# Altium footprint library cpld.PcbLib: 7 footprints
Each footprint in its own frame and in the unit in brackets; x right, y up, seen from the top. Pads: shape width x height; smd on the part's side, far side on the other; paste and mask are expansions set on the pad; w line width, h text height; cw(c..) or ccw(c..) is an arc to the next point about the centre after c.
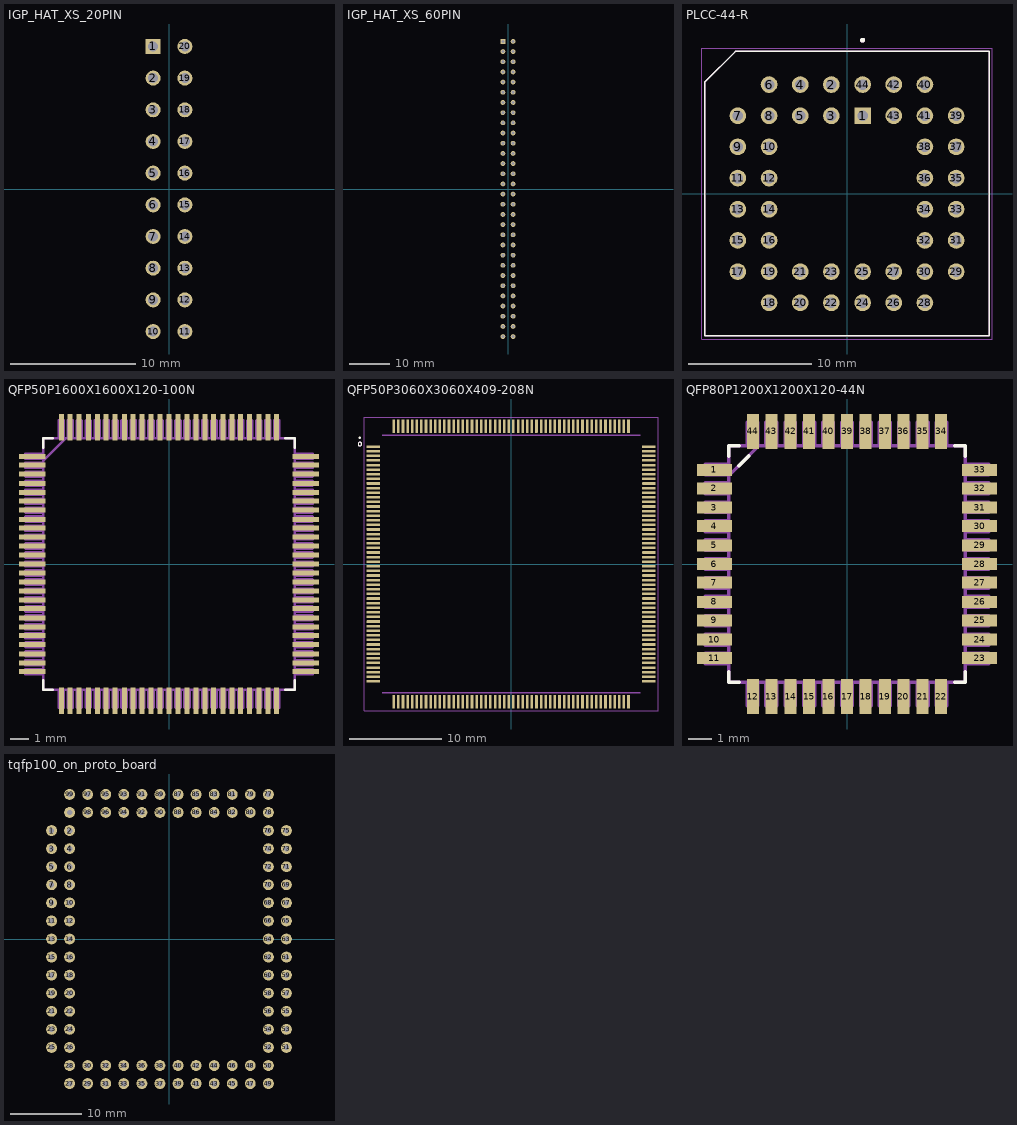
[diagram p0: the footprints below, top view; thin cyan lines are the x and y axes]

## IGP_HAT_XS_20PIN [mm]
pads (20):
  rect 1.2x1.2 hole 0.8: 1(-1.27,11.43)
  round 1.2 hole 0.8: 2(-1.27,8.89) 3(-1.27,6.35) 4(-1.27,3.81) 5(-1.27,1.27) 6(-1.27,-1.27) 7(-1.27,-3.81) 8(-1.27,-6.35) 9(-1.27,-8.89) 10(-1.27,-11.43) 11(1.27,-11.43) 12(1.27,-8.89) 13(1.27,-6.35) 14(1.27,-3.81) 15(1.27,-1.27) 16(1.27,1.27) 17(1.27,3.81) 18(1.27,6.35) 19(1.27,8.89) 20(1.27,11.43)
3D body "PBD20.STEP": height 5.2, standoff -3.1, extent -2.52,-12.95 2.48,12.95

## IGP_HAT_XS_60PIN [mm]
pads (60):
  rect 1.2x1.2 hole 0.8: 1(-1.27,36.83)
  round 1.2 hole 0.8: 2(-1.27,34.29) 3(-1.27,31.75) 4(-1.27,29.21) 5(-1.27,26.67) 6(-1.27,24.13) 7(-1.27,21.59) 8(-1.27,19.05) 9(-1.27,16.51) 10(-1.27,13.97) 11(-1.27,11.43) 12(-1.27,8.89) 13(-1.27,6.35) 14(-1.27,3.81) 15(-1.27,1.27) 16(-1.27,-1.27) 17(-1.27,-3.81) 18(-1.27,-6.35) 19(-1.27,-8.89) 20(-1.27,-11.43) 21(-1.27,-13.97) 22(-1.27,-16.51) 23(-1.27,-19.05) 24(-1.27,-21.59) 25(-1.27,-24.13) 26(-1.27,-26.67) 27(-1.27,-29.21) 28(-1.27,-31.75) 29(-1.27,-34.29) 30(-1.27,-36.83) 31(1.27,-36.83) 32(1.27,-34.29) 33(1.27,-31.75) 34(1.27,-29.21) 35(1.27,-26.67) 36(1.27,-24.13) 37(1.27,-21.59) 38(1.27,-19.05) 39(1.27,-16.51) 40(1.27,-13.97) 41(1.27,-11.43) 42(1.27,-8.89) 43(1.27,-6.35) 44(1.27,-3.81) 45(1.27,-1.27) 46(1.27,1.27) 47(1.27,3.81) 48(1.27,6.35) 49(1.27,8.89) 50(1.27,11.43) 51(1.27,13.97) 52(1.27,16.51) 53(1.27,19.05) 54(1.27,21.59) 55(1.27,24.13) 56(1.27,26.67) 57(1.27,29.21) 58(1.27,31.75) 59(1.27,34.29) 60(1.27,36.83)
3D body "PBD60.STEP": height 5.2, standoff -3.1, extent -2.52,-38.35 2.48,38.35

## PLCC-44-R [mm]
height 8.15
pads (44):
  rect 1.358x1.358 hole 0.85: 1(1.27,6.35)
  round 1.358 hole 0.85: 2(-1.27,8.89) 3(-1.27,6.35) 4(-3.81,8.89) 5(-3.81,6.35) 6(-6.35,8.89) 7(-8.89,6.35) 8(-6.35,6.35) 9(-8.89,3.81) 10(-6.35,3.81) 11(-8.89,1.27) 12(-6.35,1.27) 13(-8.89,-1.27) 14(-6.35,-1.27) 15(-8.89,-3.81) 16(-6.35,-3.81) 17(-8.89,-6.35) 18(-6.35,-8.89) 19(-6.35,-6.35) 20(-3.81,-8.89) 21(-3.81,-6.35) 22(-1.27,-8.89) 23(-1.27,-6.35) 24(1.27,-8.89) 25(1.27,-6.35) 26(3.81,-8.89) 27(3.81,-6.35) 28(6.35,-8.89) 29(8.89,-6.35) 30(6.35,-6.35) 31(8.89,-3.81) 32(6.35,-3.81) 33(8.89,-1.27) 34(6.35,-1.27) 35(8.89,1.27) 36(6.35,1.27) 37(8.89,3.81) 38(6.35,3.81) 39(8.89,6.35) 40(6.35,8.89) 41(6.35,6.35) 42(3.81,8.89) 43(3.81,6.35) 44(1.27,8.89)
Top Overlay:
  circle w0.2: c1.27,12.5 r0.1
  lines w0.127: -11.59,-11.59 11.59,-11.59 11.59,11.59 -9.09,11.59 -11.59,9.09 -11.59,-11.59
Mechanical 13:
  circle w0.2: c1.27,12.5 r0.1
  lines w0.127: -11.59,-11.59 -11.59,9.09 -9.09,11.59 11.59,11.59 11.59,-11.59 -11.59,-11.59
Mechanical 15:
  lines w0.05: -11.84,-11.84 11.84,-11.84 11.84,11.84 -11.84,11.84 -11.84,-11.84
3D body "step_temp.STEP": height 8.31, standoff -3.09, extent -11.74,-11.74 11.74,11.74
3D body "plcc-44.step": height 8.2, standoff 3.81, extent -8.813,-8.788 8.712,8.737

## QFP50P1600X1600X120-100N [mil]
pads (100):
  rect 58x11 smd: 1(-300,236) 2(-300,217) 3(-300,197) 4(-300,177) 5(-300,157) 6(-300,138) 7(-300,118) 8(-300,98) 9(-300,79) 10(-300,59) 11(-300,39) 12(-300,20) 13(-300,0) 14(-300,-20) 15(-300,-39) 16(-300,-59) 17(-300,-79) 18(-300,-98) 19(-300,-118) 20(-300,-138) 21(-300,-157) 22(-300,-177) 23(-300,-197) 24(-300,-217) 25(-300,-236) 51(300,-236) 52(300,-217) 53(300,-197) 54(300,-177) 55(300,-157) 56(300,-138) 57(300,-118) 58(300,-98) 59(300,-79) 60(300,-59) 61(300,-39) 62(300,-20) 63(300,0) 64(300,20) 65(300,39) 66(300,59) 67(300,79) 68(300,98) 69(300,118) 70(300,138) 71(300,157) 72(300,177) 73(300,197) 74(300,217) 75(300,236)
  rect 11x58 smd: 26(-236,-300) 27(-217,-300) 28(-197,-300) 29(-177,-300) 30(-157,-300) 31(-138,-300) 32(-118,-300) 33(-98,-300) 34(-79,-300) 35(-59,-300) 36(-39,-300) 37(-20,-300) 38(0,-300) 39(20,-300) 40(39,-300) 41(59,-300) 42(79,-300) 43(98,-300) 44(118,-300) 45(138,-300) 46(157,-300) 47(177,-300) 48(197,-300) 49(217,-300) 50(236,-300) 76(236,300) 77(217,300) 78(197,300) 79(177,300) 80(157,300) 81(138,300) 82(118,300) 83(98,300) 84(79,300) 85(59,300) 86(39,300) 87(20,300) 88(0,300) 89(-20,300) 90(-39,300) 91(-59,300) 92(-79,300) 93(-98,300) 94(-118,300) 95(-138,300) 96(-157,300) 97(-177,300) 98(-197,300) 99(-217,300) 100(-236,300)
Top Overlay:
  lines w6: -276,-255 -276,-276 -255,-276 ; -276,255 -276,276 -255,276 ; 255,-276 276,-276 276,-255 ; 255,276 276,276 276,255
Mechanical 13:
  drawing of 405 lines, arcs and shapes, not listed
3D body "EPM3128ATC10010N.STEP": height 50, standoff 0, extent -314.96,-314.96 314.96,314.96

## QFP50P3060X3060X409-208N [mm]
pads (208):
  rrect25% 1.47x0.28 smd: 1(-14.97,12.75) 2(-14.97,12.25) 3(-14.97,11.75) 4(-14.97,11.25) 5(-14.97,10.75) 6(-14.97,10.25) 7(-14.97,9.75) 8(-14.97,9.25) 9(-14.97,8.75) 10(-14.97,8.25) 11(-14.97,7.75) 12(-14.97,7.25) 13(-14.97,6.75) 14(-14.97,6.25) 15(-14.97,5.75) 16(-14.97,5.25) 17(-14.97,4.75) 18(-14.97,4.25) 19(-14.97,3.75) 20(-14.97,3.25) 21(-14.97,2.75) 22(-14.97,2.25) 23(-14.97,1.75) 24(-14.97,1.25) 25(-14.97,0.75) 26(-14.97,0.25) 27(-14.97,-0.25) 28(-14.97,-0.75) 29(-14.97,-1.25) 30(-14.97,-1.75) 31(-14.97,-2.25) 32(-14.97,-2.75) 33(-14.97,-3.25) 34(-14.97,-3.75) 35(-14.97,-4.25) 36(-14.97,-4.75) 37(-14.97,-5.25) 38(-14.97,-5.75) 39(-14.97,-6.25) 40(-14.97,-6.75) 41(-14.97,-7.25) 42(-14.97,-7.75) 43(-14.97,-8.25) 44(-14.97,-8.75) 45(-14.97,-9.25) 46(-14.97,-9.75) 47(-14.97,-10.25) 48(-14.97,-10.75) 49(-14.97,-11.25) 50(-14.97,-11.75) 51(-14.97,-12.25) 52(-14.97,-12.75) 105(14.97,-12.75) 106(14.97,-12.25) 107(14.97,-11.75) 108(14.97,-11.25) 109(14.97,-10.75) 110(14.97,-10.25) 111(14.97,-9.75) 112(14.97,-9.25) 113(14.97,-8.75) 114(14.97,-8.25) 115(14.97,-7.75) 116(14.97,-7.25) 117(14.97,-6.75) 118(14.97,-6.25) 119(14.97,-5.75) 120(14.97,-5.25) 121(14.97,-4.75) 122(14.97,-4.25) 123(14.97,-3.75) 124(14.97,-3.25) 125(14.97,-2.75) 126(14.97,-2.25) 127(14.97,-1.75) 128(14.97,-1.25) 129(14.97,-0.75) 130(14.97,-0.25) 131(14.97,0.25) 132(14.97,0.75) 133(14.97,1.25) 134(14.97,1.75) 135(14.97,2.25) 136(14.97,2.75) 137(14.97,3.25) 138(14.97,3.75) 139(14.97,4.25) 140(14.97,4.75) 141(14.97,5.25) 142(14.97,5.75) 143(14.97,6.25) 144(14.97,6.75) 145(14.97,7.25) 146(14.97,7.75) 147(14.97,8.25) 148(14.97,8.75) 149(14.97,9.25) 150(14.97,9.75) 151(14.97,10.25) 152(14.97,10.75) 153(14.97,11.25) 154(14.97,11.75) 155(14.97,12.25) 156(14.97,12.75)
  rrect25% 0.28x1.47 smd: 53(-12.75,-14.97) 54(-12.25,-14.97) 55(-11.75,-14.97) 56(-11.25,-14.97) 57(-10.75,-14.97) 58(-10.25,-14.97) 59(-9.75,-14.97) 60(-9.25,-14.97) 61(-8.75,-14.97) 62(-8.25,-14.97) 63(-7.75,-14.97) 64(-7.25,-14.97) 65(-6.75,-14.97) 66(-6.25,-14.97) 67(-5.75,-14.97) 68(-5.25,-14.97) 69(-4.75,-14.97) 70(-4.25,-14.97) 71(-3.75,-14.97) 72(-3.25,-14.97) 73(-2.75,-14.97) 74(-2.25,-14.97) 75(-1.75,-14.97) 76(-1.25,-14.97) 77(-0.75,-14.97) 78(-0.25,-14.97) 79(0.25,-14.97) 80(0.75,-14.97) 81(1.25,-14.97) 82(1.75,-14.97) 83(2.25,-14.97) 84(2.75,-14.97) 85(3.25,-14.97) 86(3.75,-14.97) 87(4.25,-14.97) 88(4.75,-14.97) 89(5.25,-14.97) 90(5.75,-14.97) 91(6.25,-14.97) 92(6.75,-14.97) 93(7.25,-14.97) 94(7.75,-14.97) 95(8.25,-14.97) 96(8.75,-14.97) 97(9.25,-14.97) 98(9.75,-14.97) 99(10.25,-14.97) 100(10.75,-14.97) 101(11.25,-14.97) 102(11.75,-14.97) 103(12.25,-14.97) 104(12.75,-14.97) 157(12.75,14.97) 158(12.25,14.97) 159(11.75,14.97) 160(11.25,14.97) 161(10.75,14.97) 162(10.25,14.97) 163(9.75,14.97) 164(9.25,14.97) 165(8.75,14.97) 166(8.25,14.97) 167(7.75,14.97) 168(7.25,14.97) 169(6.75,14.97) 170(6.25,14.97) 171(5.75,14.97) 172(5.25,14.97) 173(4.75,14.97) 174(4.25,14.97) 175(3.75,14.97) 176(3.25,14.97) 177(2.75,14.97) 178(2.25,14.97) 179(1.75,14.97) 180(1.25,14.97) 181(0.75,14.97) 182(0.25,14.97) 183(-0.25,14.97) 184(-0.75,14.97) 185(-1.25,14.97) 186(-1.75,14.97) 187(-2.25,14.97) 188(-2.75,14.97) 189(-3.25,14.97) 190(-3.75,14.97) 191(-4.25,14.97) 192(-4.75,14.97) 193(-5.25,14.97) 194(-5.75,14.97) 195(-6.25,14.97) 196(-6.75,14.97) 197(-7.25,14.97) 198(-7.75,14.97) 199(-8.25,14.97) 200(-8.75,14.97) 201(-9.25,14.97) 202(-9.75,14.97) 203(-10.25,14.97) 204(-10.75,14.97) 205(-11.25,14.97) 206(-11.75,14.97) 207(-12.25,14.97) 208(-12.75,14.97)
Top Overlay:
  circle w0: c-16.44,13.03 r0.2
  lines w0.254: -16.485,13.716 -16.459,13.716
Mechanical 13:
  circle w0: c-16.44,13.03 r0.2
  lines w0.152: -14,-14 14,-14 ; -14,14 14,14
Mechanical 15:
  lines w0.05: -15.955,-15.955 15.955,-15.955 15.955,15.955 -15.955,15.955 -15.955,-15.955
3D body "PQ208.STEP": height 4.15, standoff -0.08, extent -15.291,-15.309 15.309,15.291

## QFP80P1200X1200X120-44N [mil]
pads (44):
  rect 58x20 smd: 1(-221,157) 2(-221,126) 3(-221,94) 4(-221,63) 5(-221,31) 6(-221,0) 7(-221,-31) 8(-221,-63) 9(-221,-94) 10(-221,-126) 11(-221,-157) 23(221,-157) 24(221,-126) 25(221,-94) 26(221,-63) 27(221,-31) 28(221,0) 29(221,31) 30(221,63) 31(221,94) 32(221,126) 33(221,157)
  rect 20x58 smd: 12(-157,-221) 13(-126,-221) 14(-94,-221) 15(-63,-221) 16(-31,-221) 17(0,-221) 18(31,-221) 19(63,-221) 20(94,-221) 21(126,-221) 22(157,-221) 34(157,221) 35(126,221) 36(94,221) 37(63,221) 38(31,221) 39(0,221) 40(-31,221) 41(-63,221) 42(-94,221) 43(-126,221) 44(-157,221)
Top Overlay:
  lines w6: -197,-180 -197,-197 -180,-197 ; -197,180 -197,197 -180,197 ; -180,164 -164,180 ; 180,-197 197,-197 197,-180 ; 180,197 197,197 197,180
Mechanical 13:
  drawing of 181 lines, arcs and shapes, not listed

## tqfp100_on_proto_board [mil]
pads (100):
  round 60 hole 30: 1(-650,600) 2(-550,600) 3(-650,500) 4(-550,500) 5(-650,400) 6(-550,400) 7(-650,300) 8(-550,300) 9(-650,200) 10(-550,200) 11(-650,100) 12(-550,100) 13(-650,0) 14(-550,0) 15(-650,-100) 16(-550,-100) 17(-650,-200) 18(-550,-200) 19(-650,-300) 20(-550,-300) 21(-650,-400) 22(-550,-400) 23(-650,-500) 24(-550,-500) 25(-650,-600) 26(-550,-600) 27(-550,-800) 28(-550,-700) 29(-450,-800) 30(-450,-700) 31(-350,-800) 32(-350,-700) 33(-250,-800) 34(-250,-700) 35(-150,-800) 36(-150,-700) 37(-50,-800) 38(-50,-700) 39(50,-800) 40(50,-700) 41(150,-800) 42(150,-700) 43(250,-800) 44(250,-700) 45(350,-800) 46(350,-700) 47(450,-800) 48(450,-700) 49(550,-800) 50(550,-700) 51(650,-600) 52(550,-600) 53(650,-500) 54(550,-500) 55(650,-400) 56(550,-400) 57(650,-300) 58(550,-300) 59(650,-200) 60(550,-200) 61(650,-100) 62(550,-100) 63(650,0) 64(550,0) 65(650,100) 66(550,100) 67(650,200) 68(550,200) 69(650,300) 70(550,300) 71(650,400) 72(550,400) 73(650,500) 74(550,500) 75(650,600) 76(550,600) 77(550,800) 78(550,700) 79(450,800) 80(450,700) 81(350,800) 82(350,700) 83(250,800) 84(250,700) 85(150,800) 86(150,700) 87(50,800) 88(50,700) 89(-50,800) 90(-50,700) 91(-150,800) 92(-150,700) 93(-250,800) 94(-250,700) 95(-350,800) 96(-350,700) 97(-450,800) 98(-450,700) 99(-550,800) 100(-550,700)
3D body "tqfp100_on_proto_board.step": height 89.37, standoff 23.17, extent -750,-900 750,925